# Altium footprint library HDSP-H103.PcbLib: 1 footprints
Each footprint in its own frame and in the unit in brackets; x right, y up, seen from the top. Pads: shape width x height; smd on the part's side, far side on the other; paste and mask are expansions set on the pad; w line width, h text height; cw(c..) or ccw(c..) is an arc to the next point about the centre after c.
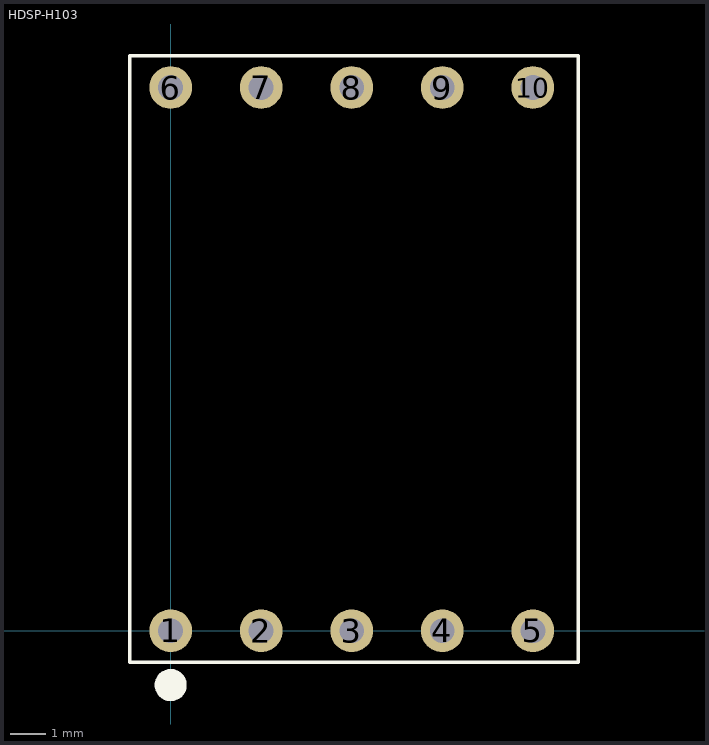
[diagram p0: the footprint, top view; thin cyan lines are the x and y axes]

## HDSP-H103 [mm]
pads (10):
  round 1.2 hole 0.7: 1(0,0) 2(2.54,0) 3(5.08,0) 4(7.62,0) 5(10.16,0) 6(0,15.24) 7(2.54,15.24) 8(5.08,15.24) 9(7.62,15.24) 10(10.16,15.24)
Top Overlay:
  circle w0.5: c0,-1.524 r0.2
  lines w0.1: -1.143,-0.889 11.43,-0.889 11.43,16.129 -1.143,16.129 -1.143,-0.889
3D body "display7seg HDSP-H103.STEP": height 8, standoff -4.09, extent -1.174,-0.844 11.399,16.176